# Altium integrated library Memory.IntLib: 18 symbols
Pins are listed as number, name and electrical type; pins without a type are passive.

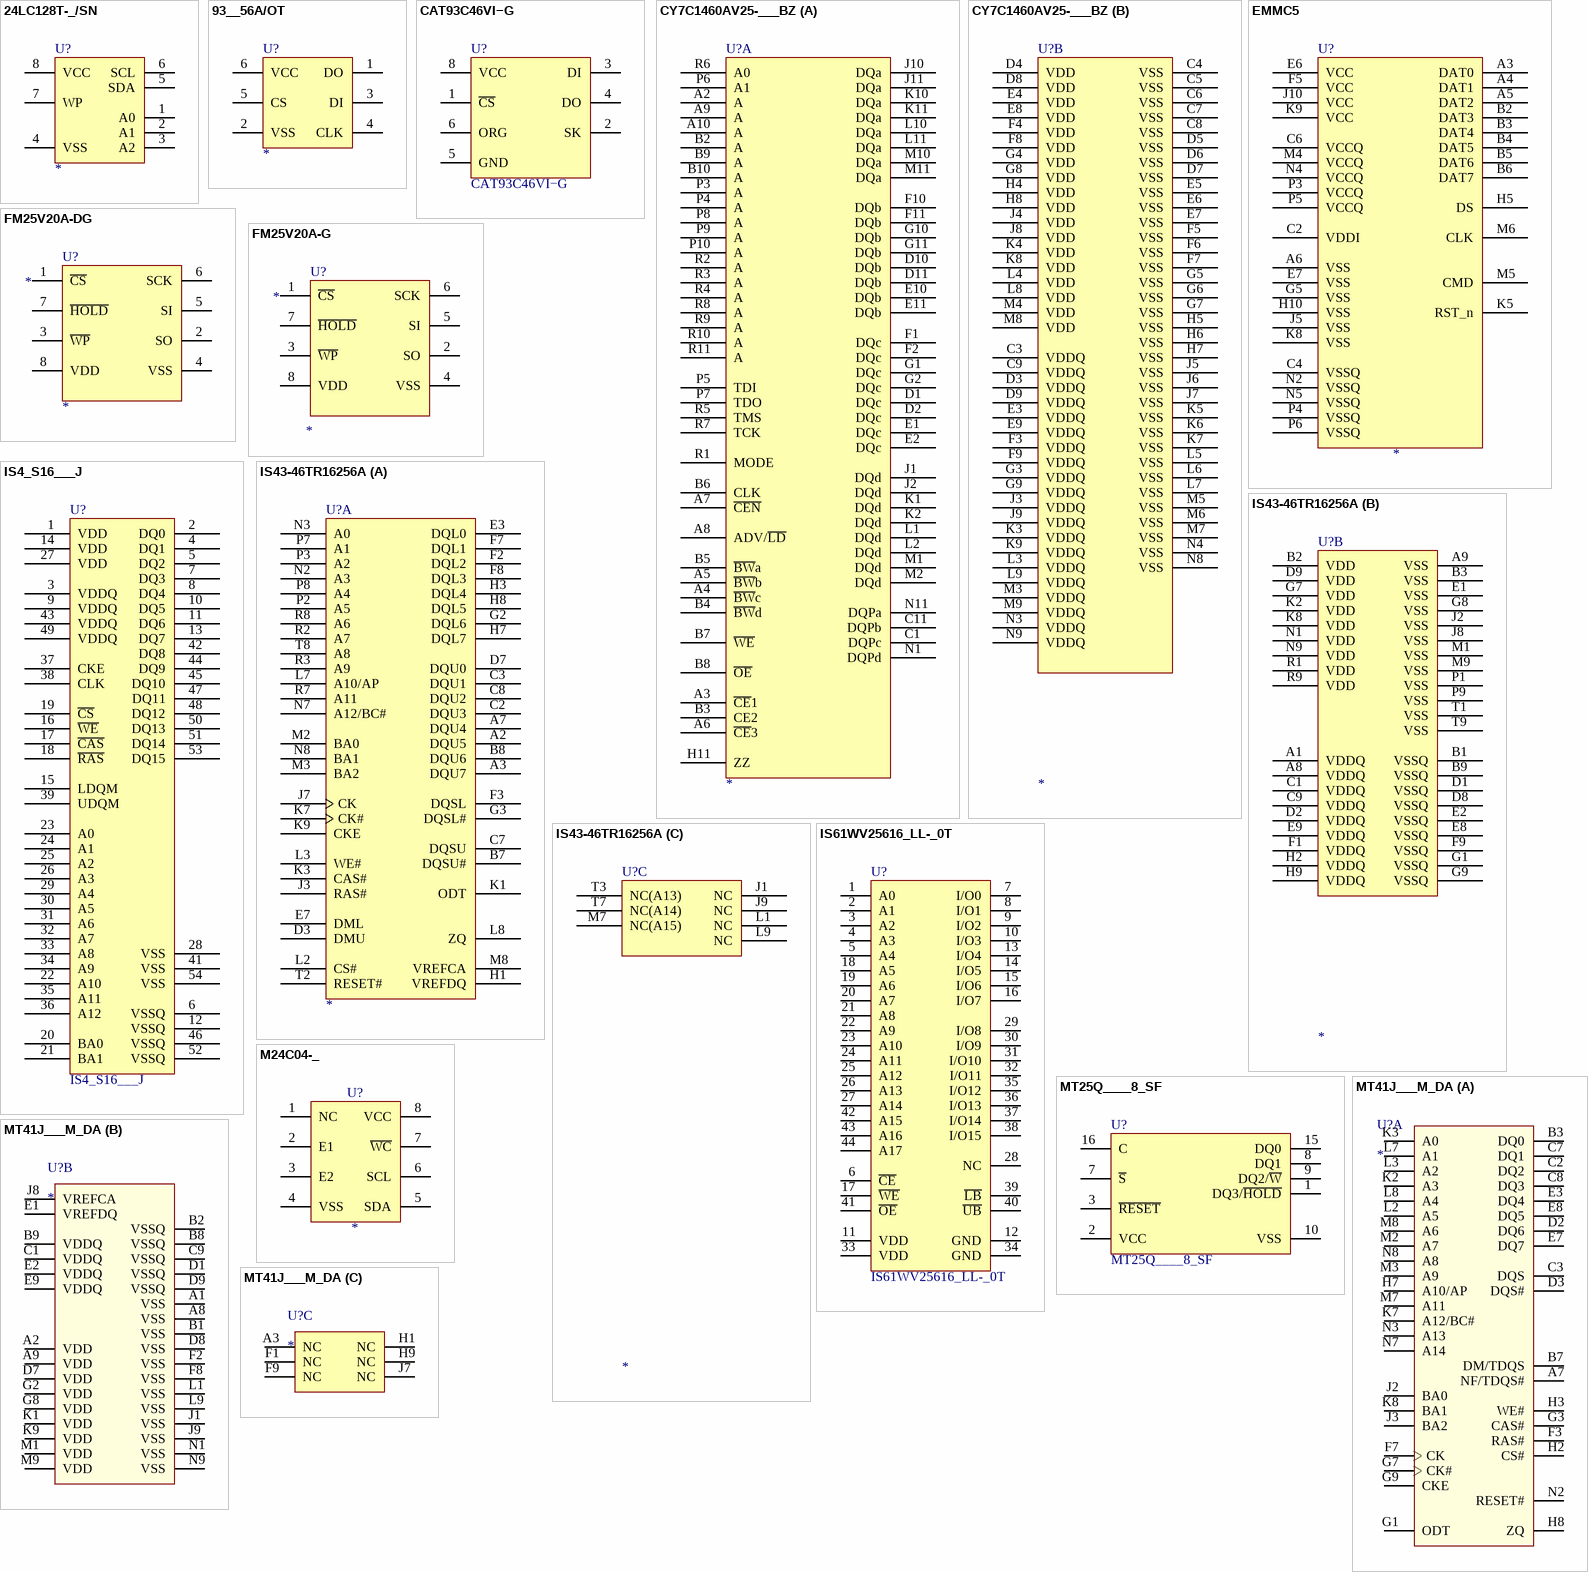
[diagram p0: symbols 24LC128T-_/SN to MT41J___M_DA]

## 24LC128T-_/SN
designator U?
128K I2C™ CMOS Serial EEPROM; Value: *
footprint SO8 P1.27 C4.0X5.0 H1.75 (8-Pin Small Outline Integrated Circuit 1.27 mm Pitch, IPC Medium Density)
pins: 1 A0, 2 A1, 3 A2, 4 VSS (power), 5 SDA, 6 SCL, 7 WP, 8 VCC (power)

## 93__56A/OT
designator U?
2K bit low voltage serial EEPROMs, Without ORG Pin; Value: *
footprint SOT23-6 P0.95 C1.5x3.0 H1.3 (SOT23, 6-Leads, Body 1.6x3.0mm, Pitch 0.95mm, IPC Medium Density)
pins: 1 DO, 2 VSS (power), 3 DI, 4 CLK, 5 CS, 6 VCC (power)

## CAT93C46VI−G
designator U?
1 Kb Microwire Serial  EEPROM; Value: CAT93C46VI−G
footprint SO8 P1.27 C4.0X5.0 H1.75 (8-Pin Small Outline Integrated Circuit 1.27 mm Pitch, IPC Medium Density)
pins: 1 ~{CS}, 2 SK, 3 DI, 4 DO (power), 5 GND, 6 ORG, 8 VCC (power)

## CY7C1460AV25-___BZ
designator U?
Cypress 36Mbit  Pipelined SRAM with NoBL  Architecture; Value: *
footprint BGA165 P1.0 C15x17 H1.4 (BGA, 165-Leads, Body 15.00x17.00mmx1.40mm, Pitch 1.00mm)
part A pins: A2 A, A3 ~{CE}1, A4 ~{BW}c, A5 ~{BW}b, A6 ~{CE}3, A7 ~{CEN}, A8 ADV/~{LD}, A9 A, A10 A, B2 A, B3 CE2, B4 ~{BW}d, B5 ~{BW}a, B6 CLK, B7 ~{WE}, B8 ~{OE}, B9 A, B10 A, C1 DQPc, C11 DQPb, D1 DQc, D2 DQc, D10 DQb, D11 DQb, E1 DQc, E2 DQc, E10 DQb, E11 DQb, F1 DQc, F2 DQc, F10 DQb, F11 DQb, G1 DQc, G2 DQc, G10 DQb, G11 DQb, H11 ZZ, J1 DQd, J2 DQd, J10 DQa, J11 DQa, K1 DQd, K2 DQd, K10 DQa, K11 DQa, L1 DQd, L2 DQd, L10 DQa, L11 DQa, M1 DQd, M2 DQd, M10 DQa, M11 DQa, N1 DQPd, N11 DQPa, P3 A, P4 A, P5 TDI, P6 A1, P7 TDO, P8 A, P9 A, P10 A, R1 MODE, R2 A, R3 A, R4 A, R5 TMS, R6 A0, R7 TCK, R8 A, R9 A, R10 A, R11 A
part B pins: C3 VDDQ, C4 VSS, C5 VSS, C6 VSS, C7 VSS, C8 VSS, C9 VDDQ, D3 VDDQ, D4 VDD, D5 VSS, D6 VSS, D7 VSS, D8 VDD, D9 VDDQ, E3 VDDQ, E4 VDD, E5 VSS, E6 VSS, E7 VSS, E8 VDD, E9 VDDQ, F3 VDDQ, F4 VDD, F5 VSS, F6 VSS, F7 VSS, F8 VDD, F9 VDDQ, G3 VDDQ, G4 VDD, G5 VSS, G6 VSS, G7 VSS, G8 VDD, G9 VDDQ, H4 VDD, H5 VSS, H6 VSS, H7 VSS, H8 VDD, J3 VDDQ, J4 VDD, J5 VSS, J6 VSS, J7 VSS, J8 VDD, J9 VDDQ, K3 VDDQ, K4 VDD, K5 VSS, K6 VSS, K7 VSS, K8 VDD, K9 VDDQ, L3 VDDQ, L4 VDD, L5 VSS, L6 VSS, L7 VSS, L8 VDD, L9 VDDQ, M3 VDDQ, M4 VDD, M5 VSS, M6 VSS, M7 VSS, M8 VDD, M9 VDDQ, N3 VDDQ, N4 VSS, N8 VSS, N9 VDDQ

## EMMC5
designator U?
Generic EMMC5; Value: *
footprint BGA153 P0.5 C11.5X13 H1.4 (BGA, 153-Leads, Body 11.50x13.00mmx1.40mm, Pitch 0.50mm)
pins: A3 DAT0, A4 DAT1, A5 DAT2, A6 VSS, B2 DAT3, B3 DAT4, B4 DAT5, B5 DAT6, B6 DAT7, C2 VDDI, C4 VSSQ, C6 VCCQ, E6 VCC, E7 VSS, F5 VCC, G5 VSS, H5 DS, H10 VSS, J5 VSS, J10 VCC, K5 RST_n, K8 VSS, K9 VCC, M4 VCCQ, M5 CMD, M6 CLK, N2 VSSQ, N4 VCCQ, N5 VSSQ, P3 VCCQ, P4 VSSQ, P5 VCCQ, P6 VSSQ

## FM25V20A-DG
designator U?
2-Mbit (256 K × 8) Serial (SPI) F-RAM; Value: *
footprint DFN8 P0.5 T2.5X4.2 C5.0X6.0 H0.8 (DFN 8-Leads, Body 5.00x6.00mm, Pitch 1.27mm, IPC Medium Density)
pins: 1 ~{CS}, 2 SO, 3 ~{WP}, 4 VSS (power), 5 SI, 6 SCK, 7 ~{HOLD}, 8 VDD (power)

## FM25V20A-G
designator U?
2-Mbit (256 K × 8) Serial (SPI) F-RAM; Value: *
footprint SO8W P1.27 C5.0X5.0 H2.0 (8-Pin Small Outline Integrated Circuit 1.27 mm Pitch, IPC Medium Density)
pins: 1 ~{CS}, 2 SO, 3 ~{WP}, 4 VSS (power), 5 SI, 6 SCK, 7 ~{HOLD}, 8 VDD (power)

## IS4_S16___J
designator U?
1 Meg Bits x 16 Bits x 4 Banks (64-MBIT)  SYNCHRONOUS DYNAMIC RAM; Value: IS4_S16___J
footprint TSOP54 P0.8 C10.3x22.4 H1.2 (TSOP, 54-Leads, Body 22.22x10.16mm, Pitch 0.80mm, IPC Medium Density)
pins: 1 VDD, 2 DQ0, 3 VDDQ, 4 DQ1, 5 DQ2, 6 VSSQ, 7 DQ3, 8 DQ4, 9 VDDQ, 10 DQ5, 11 DQ6, 12 VSSQ, 13 DQ7, 14 VDD, 15 LDQM, 16 ~{WE}, 17 ~{CAS}, 18 ~{RAS}, 19 ~{CS}, 20 BA0, 21 BA1, 22 A10, 23 A0, 24 A1, 25 A2, 26 A3, 27 VDD, 28 VSS, 29 A4, 30 A5, 31 A6, 32 A7, 33 A8, 34 A9, 35 A11, 36 A12, 37 CKE, 38 CLK, 39 UDQM, 41 VSS, 42 DQ8, 43 VDDQ, 44 DQ9, 45 DQ10, 46 VSSQ, 47 DQ11, 48 DQ12, 49 VDDQ, 50 DQ13, 51 DQ14, 52 VSSQ, 53 DQ15, 54 VSS

## IS43-46TR16256A
designator U?
Value: *
footprint BGA96 P0.8 C9.0X13 H1.2 (BGA, 96-Leads, Body 9.0x13.0mm height 1.2mm, Pitch 0.8mm)
part A pins: A2 DQU5 "Data Input/ Output: Bi-directional data bus.", A3 DQU7 "Data Input/ Output: Bi-directional data bus.", A7 DQU4 "Data Input/ Output: Bi-directional data bus.", B7 DQSU# "Data Strobe: output with read data, input with write data. Edge-aligned with read data, centered in write data. For the x16, DQSL corresponds to the data on DQL0-DQL7; DQSU corresponds to the data on DQU0-DQU7. The data strobes DQS, DQSL, and DQSU are paired with differential signals DQS#, DQSL#, and DQSU#, respectively, to provide differential pair signaling to the system during reads and writes. DDR3 SDRAM supports differential data strobe only and does not support single-ended.", B8 DQU6 "Data Input/ Output: Bi-directional data bus.", C2 DQU3 "Data Input/ Output: Bi-directional data bus.", C3 DQU1 "Data Input/ Output: Bi-directional data bus.", C7 DQSU "Data Strobe: output with read data, input with write data. Edge-aligned with read data, centered in write data. For the x16, DQSL corresponds to the data on DQL0-DQL7; DQSU corresponds to the data on DQU0-DQU7. The data strobes DQS, DQSL, and DQSU are paired with differential signals DQS#, DQSL#, and DQSU#, respectively, to provide differential pair signaling to the system during reads and writes. DDR3 SDRAM supports differential data strobe only and does not support single-ended.", C8 DQU2 "Data Input/ Output: Bi-directional data bus.", D3 DMU "Input Data Mask: DM is an input mask signal for write data. Input data is masked when DM is sampled HIGH coincident with that input data during a Write access. DM is sampled on both edges of DQS. For x8 device, the function of DM or TDQS/TDQS# is enabled by Mode Register A11 setting in MR1.", D7 DQU0 "Data Input/ Output: Bi-directional data bus.", E3 DQL0 "Data Input/ Output: Bi-directional data bus.", E7 DML "Input Data Mask: DM is an input mask signal for write data. Input data is masked when DM is sampled HIGH coincident with that input data during a Write access. DM is sampled on both edges of DQS. For x8 device, the function of DM or TDQS/TDQS# is enabled by Mode Register A11 setting in MR1.", F2 DQL2 "Data Input/ Output: Bi-directional data bus.", F3 DQSL "Data Strobe: output with read data, input with write data. Edge-aligned with read data, centered in write data. For the x16, DQSL corresponds to the data on DQL0-DQL7; DQSU corresponds to the data on DQU0-DQU7. The data strobes DQS, DQSL, and DQSU are paired with differential signals DQS#, DQSL#, and DQSU#, respectively, to provide differential pair signaling to the system during reads and writes. DDR3 SDRAM supports differential data strobe only and does not support single-ended.", F7 DQL1 "Data Input/ Output: Bi-directional data bus.", F8 DQL3 "Data Input/ Output: Bi-directional data bus.", G2 DQL6 "Data Input/ Output: Bi-directional data bus.", G3 DQSL# "Data Strobe: output with read data, input with write data. Edge-aligned with read data, centered in write data. For the x16, DQSL corresponds to the data on DQL0-DQL7; DQSU corresponds to the data on DQU0-DQU7. The data strobes DQS, DQSL, and DQSU are paired with differential signals DQS#, DQSL#, and DQSU#, respectively, to provide differential pair signaling to the system during reads and writes. DDR3 SDRAM supports differential data strobe only and does not support single-ended.", H1 VREFDQ "Reference voltage for DQ", H3 DQL4 "Data Input/ Output: Bi-directional data bus.", H7 DQL7 "Data Input/ Output: Bi-directional data bus.", H8 DQL5 "Data Input/ Output: Bi-directional data bus.", J3 RAS# "Command Inputs: RAS#, CAS# and WE# (along with CS#) define the command being entered.", J7 CK "Clock: CK and CK# are differential clock inputs. All address and control input signals are sampled on the crossing of the positive edge of CK and negative edge of CK#.", K1 ODT "On Die Termination: ODT (registered HIGH) enables termination resistance internal to the DDR3 SDRAM. When enabled, ODT is only applied to each DQ, DQSU, DQSU#, DQSL, DQSL#, DMU, and DML signal. The ODT pin will be ignored if MR1 and MR2 are programmed to disable RTT.", K3 CAS# "Command Inputs: RAS#, CAS# and WE# (along with CS#) define the command being entered.", K7 CK# "Clock: CK and CK# are differential clock inputs. All address and control input signals are sampled on the crossing of the positive edge of CK and negative edge of CK#.", K9 CKE "Clock Enable: CKE HIGH activates, and CKE Low deactivates, internal clock signals and device input buffers and output drivers. Taking CKE Low provides Precharge Power-Down and Self-Refresh operation (all banks idle), or Active Power-Down (row Active in any bank). CKE is asynchronous for Self-Refresh exit. After VREFCA and VREFDQ have become stable during the power on and initialization sequence, they must be maintained during all operations (including Self-Refresh). CKE must be maintained high throughout read and write accesses. Input buffers, excluding CK, CK#, ODT and CKE, are disabled during power-down. Input buffers, excluding CKE, are disabled during Self-Refresh.", L2 CS# "Chip Select: All commands are masked when CS# is registered HIGH. CS# provides for external Rank selection on systems with multiple Ranks. CS# is considered part of the command code.", L3 WE# "Command Inputs: RAS#, CAS# and WE# (along with CS#) define the command being entered.", L7 A10/AP "Auto-precharge: A10 is sampled during Read/Write commands to determine whether Autoprecharge should be performed to the accessed bank after the Read/Write operation. (HIGH: Autoprecharge; LOW: no Autoprecharge). A10 is sampled during a Precharge command to determine whether the Precharge applies to one bank (A10 LOW) or all banks (A10 HIGH). If only one bank is to be precharged, the bank is selected by bank addresses.", L8 ZQ "Reference Pin for ZQ", M2 BA0 "Bank Address Inputs: BA0 - BA2 define to which bank an Active, Read, Write, or Precharge command is being applied. Bank address also determines which mode register is to be accessed during a MRS cycle.", M3 BA2 "Bank Address Inputs: BA0 - BA2 define to which bank an Active, Read, Write, or Precharge command is being applied. Bank address also determines which mode register is to be accessed during a MRS cycle.", M8 VREFCA "Reference voltage for CA", N2 A3 "Address Inputs: Provide the row address for Active commands and the column address for Read/ Write commands to select one location out of the memory array in the respective bank. (A10/AP and A12/BC# have additional functions; see below). The address inputs also provide the op-code during Mode Register Set commands.", N3 A0 "Address Inputs: Provide the row address for Active commands and the column address for Read/ Write commands to select one location out of the memory array in the respective bank. (A10/AP and A12/BC# have additional functions; see below). The address inputs also provide the op-code during Mode Register Set commands.", N7 A12/BC# "Burst Chop: A12 / BC# is sampled during Read and Write commands to determine if burst chop (on-the-fly) will be performed. (HIGH, no burst chop; LOW: burst chopped). See command truth table for details.", N8 BA1 "Bank Address Inputs: BA0 - BA2 define to which bank an Active, Read, Write, or Precharge command is being applied. Bank address also determines which mode register is to be accessed during a MRS cycle.", P2 A5 "Address Inputs: Provide the row address for Active commands and the column address for Read/ Write commands to select one location out of the memory array in the respective bank. (A10/AP and A12/BC# have additional functions; see below). The address inputs also provide the op-code during Mode Register Set commands.", P3 A2 "Address Inputs: Provide the row address for Active commands and the column address for Read/ Write commands to select one location out of the memory array in the respective bank. (A10/AP and A12/BC# have additional functions; see below). The address inputs also provide the op-code during Mode Register Set commands.", P7 A1 "Address Inputs: Provide the row address for Active commands and the column address for Read/ Write commands to select one location out of the memory array in the respective bank. (A10/AP and A12/BC# have additional functions; see below). The address inputs also provide the op-code during Mode Register Set commands.", P8 A4 "Address Inputs: Provide the row address for Active commands and the column address for Read/ Write commands to select one location out of the memory array in the respective bank. (A10/AP and A12/BC# have additional functions; see below). The address inputs also provide the op-code during Mode Register Set commands.", R2 A7 "Address Inputs: Provide the row address for Active commands and the column address for Read/ Write commands to select one location out of the memory array in the respective bank. (A10/AP and A12/BC# have additional functions; see below). The address inputs also provide the op-code during Mode Register Set commands.", R3 A9 "Address Inputs: Provide the row address for Active commands and the column address for Read/ Write commands to select one location out of the memory array in the respective bank. (A10/AP and A12/BC# have additional functions; see below). The address inputs also provide the op-code during Mode Register Set commands.", R7 A11 "Address Inputs: Provide the row address for Active commands and the column address for Read/ Write commands to select one location out of the memory array in the respective bank. (A10/AP and A12/BC# have additional functions; see below). The address inputs also provide the op-code during Mode Register Set commands.", R8 A6 "Address Inputs: Provide the row address for Active commands and the column address for Read/ Write commands to select one location out of the memory array in the respective bank. (A10/AP and A12/BC# have additional functions; see below). The address inputs also provide the op-code during Mode Register Set commands.", T2 RESET# "Active Low Asynchronous Reset: Reset is active when RESET# is LOW, and inactive when RESET# is HIGH. RESET# must be HIGH during normal operation. RESET# is a CMOS rail- to-rail signal with DC high and low at 80% and 20% of VDD, i.e., 1.20V for DC high and 0.30V for DC low.", T8 A8 "Address Inputs: Provide the row address for Active commands and the column address for Read/ Write commands to select one location out of the memory array in the respective bank. (A10/AP and A12/BC# have additional functions; see below). The address inputs also provide the op-code during Mode Register Set commands."
part B pins: A1 VDDQ "DQ Power Supply: 1.5 V +/- 0.075 V for standard voltage or 1.35V +0.1V, -0.067V for low voltage", A8 VDDQ "DQ Power Supply: 1.5 V +/- 0.075 V for standard voltage or 1.35V +0.1V, -0.067V for low voltage", A9 VSS "Ground", B1 VSSQ "DQ Ground", B2 VDD "Power Supply: 1.5 V +/- 0.075 V for standard voltage or 1.35V +0.1V, -0.067V for low voltage", B3 VSS "Ground", B9 VSSQ "DQ Ground", C1 VDDQ "DQ Power Supply: 1.5 V +/- 0.075 V for standard voltage or 1.35V +0.1V, -0.067V for low voltage", C9 VDDQ "DQ Power Supply: 1.5 V +/- 0.075 V for standard voltage or 1.35V +0.1V, -0.067V for low voltage", D1 VSSQ "DQ Ground", D2 VDDQ "DQ Power Supply: 1.5 V +/- 0.075 V for standard voltage or 1.35V +0.1V, -0.067V for low voltage", D8 VSSQ "DQ Ground", D9 VDD "Power Supply: 1.5 V +/- 0.075 V for standard voltage or 1.35V +0.1V, -0.067V for low voltage", E1 VSS "Ground", E2 VSSQ "DQ Ground", E8 VSSQ "DQ Ground", E9 VDDQ "DQ Power Supply: 1.5 V +/- 0.075 V for standard voltage or 1.35V +0.1V, -0.067V for low voltage", F1 VDDQ "DQ Power Supply: 1.5 V +/- 0.075 V for standard voltage or 1.35V +0.1V, -0.067V for low voltage", F9 VSSQ "DQ Ground", G1 VSSQ "DQ Ground", G7 VDD "Power Supply: 1.5 V +/- 0.075 V for standard voltage or 1.35V +0.1V, -0.067V for low voltage", G8 VSS "Ground", G9 VSSQ "DQ Ground", H2 VDDQ "DQ Power Supply: 1.5 V +/- 0.075 V for standard voltage or 1.35V +0.1V, -0.067V for low voltage", H9 VDDQ "DQ Power Supply: 1.5 V +/- 0.075 V for standard voltage or 1.35V +0.1V, -0.067V for low voltage", J2 VSS "Ground", J8 VSS "Ground", K2 VDD "Power Supply: 1.5 V +/- 0.075 V for standard voltage or 1.35V +0.1V, -0.067V for low voltage", K8 VDD "Power Supply: 1.5 V +/- 0.075 V for standard voltage or 1.35V +0.1V, -0.067V for low voltage", M1 VSS "Ground", M9 VSS "Ground", N1 VDD "Power Supply: 1.5 V +/- 0.075 V for standard voltage or 1.35V +0.1V, -0.067V for low voltage", N9 VDD "Power Supply: 1.5 V +/- 0.075 V for standard voltage or 1.35V +0.1V, -0.067V for low voltage", P1 VSS "Ground", P9 VSS "Ground", R1 VDD "Power Supply: 1.5 V +/- 0.075 V for standard voltage or 1.35V +0.1V, -0.067V for low voltage", R9 VDD "Power Supply: 1.5 V +/- 0.075 V for standard voltage or 1.35V +0.1V, -0.067V for low voltage", T1 VSS "Ground", T9 VSS "Ground"
part C pins: J1 NC "No Connect: No internal electrical connection is present.", J9 NC "No Connect: No internal electrical connection is present.", L1 NC "No Connect: No internal electrical connection is present.", L9 NC "No Connect: No internal electrical connection is present.", M7 NC(A15) "No Connect: No internal electrical connection is present.", T3 NC(A13) "No Connect: No internal electrical connection is present.", T7 NC(A14) "No Connect: No internal electrical connection is present."

## IS61WV25616_LL-_0T
designator U?
256K x 16 HIGH SPEED ASYNCHRONOUS CMOS STATIC RAM; Value: IS61WV25616_LL-_0T
footprint TSOP44 P0.8 C10.3x18.5 H1.2 (Footprint not found)
pins: 1 A0 "Address Input", 2 A1 "Address Input", 3 A2 "Address Input", 4 A3 "Address Input", 5 A4 "Address Input", 6 ~{CE} "Chip Enable Input", 7 I/O0 "Data Input/Output", 8 I/O1 "Data Input/Output", 9 I/O2 "Data Input/Output", 10 I/O3 "Data Input/Output", 11 VDD "Power", 12 GND "Ground", 13 I/O4 "Data Input/Output", 14 I/O5 "Data Input/Output", 15 I/O6 "Data Input/Output", 16 I/O7 "Data Input/Output", 17 ~{WE} "Write Enable Input", 18 A5 "Address Input", 19 A6 "Address Input", 20 A7 "Address Input", 21 A8 "Address Input", 22 A9 "Address Input", 23 A10 "Address Input", 24 A11 "Address Input", 25 A12 "Address Input", 26 A13 "Address Input", 27 A14 "Address Input", 28 NC "No Connection", 29 I/O8 "Data Input/Output", 30 I/O9 "Data Input/Output", 31 I/O10 "Data Input/Output", 32 I/O11 "Data Input/Output", 33 VDD "Power", 34 GND "Ground", 35 I/O12 "Data Input/Output", 36 I/O13 "Data Input/Output", 37 I/O14 "Data Input/Output", 38 I/O15 "Data Input/Output", 39 ~{LB} "Lower-byte Control (I/O0-I/O7)", 40 ~{UB} "Upper-byte Control (I/O8-I/O15)", 41 ~{OE} "Output Enable Input", 42 A15 "Address Input", 43 A16 "Address Input", 44 A17 "Address Input"

## M24C04-_
designator U?
4-Kbit serial I²C bus EEPROM; Value: *
footprint SO8 P1.27 C4.0X5.0 H1.75 (8-Pin Small Outline Integrated Circuit 1.27 mm Pitch, IPC Medium Density)
footprint DIP8 P2.54 W7.62 H5.0 (8-Pin Dual in Line Integrated Circuit 2.54 Pitch, 7.62 Width, Case 10x6mm)
pins: 1 NC, 2 E1, 3 E2, 4 VSS (power), 5 SDA, 6 SCL, 7 ~{WC}, 8 VCC (power)

## MT25Q____8_SF
designator U?
Value: MT25Q____8_SF
footprint SO16W P1.27 C7.5x10.2 H2.65 (SOIC WIDE, 16-Leads, Body 10.20x7.50mm, Pitch 1.27mm, IPC Medium Density)
pins: 1 DQ3/~{HOLD}, 2 VCC "Core and I/O power supply.", 3 ~{RESET}, 7 ~{S}, 8 DQ1 "Serial I/O: The bidirectional DQ signals transfer address, data, and command information. When using legacy (x1) SPI commands in extended I/O protocol (XIO-SPI), DQ0 is an input and DQ1 is an output. DQ[3:2] are not used. (See Datasheet)", 9 DQ2/~{W}, 10 VSS "Core and I/O ground connection.", 15 DQ0 "Serial I/O: The bidirectional DQ signals transfer address, data, and command information. When using legacy (x1) SPI commands in extended I/O protocol (XIO-SPI), DQ0 is an input and DQ1 is an output. DQ[3:2] are not used. (See Datasheet)", 16 C "Clock: Provides the timing of the serial interface. Command inputs are latched on the rising edge of the clock. In STR commands or protocol, address and data inputs are latched on the rising edge of the clock, while data is (See Datasheet)"

## MT41J___M_DA
designator U?
Value: *
footprint BGA78 P0.8 C8.0X10.5 H1.0 (BGA, 78-Balls, Body 8x10.5mm, Pitch 0.8mm)
part A pins: A7 NF/TDQS# "No function: When configured as a x4 device, these balls are NF. When configured as a x8 device, these balls are defined as TDQS#, DQ[7:4].Termination data strobe: Applies to the x8 configuration only. When TDQS is enabled, (See Datasheet)", B3 DQ0 "Data input/output: Lower byte of bidirectional data bus for the x16 configuration.DQ[7:0] are referenced to VREFDQ.", B7 DM/TDQS "Input data mask: DM is an input mask signal for write data. Input data is masked when DM is sampled HIGH along with the input data during a write access.Although the DM ball is input-only, the DM loading is designed to match (See Datasheet)", C2 DQ2 "Data input/output: Lower byte of bidirectional data bus for the x16 configuration.DQ[7:0] are referenced to VREFDQ.", C3 DQS "Data strobe: Output with read data. Edge-aligned with read data. Input with write data. Center-aligned to write data.", C7 DQ1 "Data input/output: Lower byte of bidirectional data bus for the x16 configuration.DQ[7:0] are referenced to VREFDQ.", C8 DQ3 "Data input/output: Lower byte of bidirectional data bus for the x16 configuration.DQ[7:0] are referenced to VREFDQ.", D2 DQ6 "Data input/output: Lower byte of bidirectional data bus for the x16 configuration.DQ[7:0] are referenced to VREFDQ.", D3 DQS# "Data strobe: Output with read data. Edge-aligned with read data. Input with write data. Center-aligned to write data.", E3 DQ4 "Data input/output: Lower byte of bidirectional data bus for the x16 configuration.DQ[7:0] are referenced to VREFDQ.", E7 DQ7 "Data input/output: Lower byte of bidirectional data bus for the x16 configuration.DQ[7:0] are referenced to VREFDQ.", E8 DQ5 "Data input/output: Lower byte of bidirectional data bus for the x16 configuration.DQ[7:0] are referenced to VREFDQ.", F3 RAS# "Command inputs: RAS#, CAS#, and WE# (along with CS#) define the command being entered and are referenced to VREFCA.", F7 CK "Clock: CK and CK# are differential clock inputs. All control and address input signals are sampled on the crossing of the positive edge of CK and the negative edge of CK#. Output data strobe (DQS, DQS#) is referenced to the (See Datasheet)", G1 ODT "On-die termination: ODT enables (registered HIGH) and disables (registered LOW) termination resistance internal to the DDR3 SDRAM. When enabled in normal operation, ODT is only applied to each of the following balls: (See Datasheet)", G3 CAS# "Command inputs: RAS#, CAS#, and WE# (along with CS#) define the command being entered and are referenced to VREFCA.", G7 CK# "Clock: CK and CK# are differential clock inputs. All control and address input signals are sampled on the crossing of the positive edge of CK and the negative edge of CK#. Output data strobe (DQS, DQS#) is referenced to the (See Datasheet)", G9 CKE "Clock enable: CKE enables (registered HIGH) and disables (registered LOW) internal circuitry and clocks on the DRAM. The specific circuitry that is enabled/disabled is dependent upon the DDR3 SDRAM configuration and (See Datasheet)", H2 CS# "Chip select: CS# enables (registered LOW) and disables (registered HIGH) the command decoder. All commands are masked when CS# is registered HIGH. CS# provides for external rank selection on systems with multiple ranks. CS# (See Datasheet)", H3 WE# "Command inputs: RAS#, CAS#, and WE# (along with CS#) define the command being entered and are referenced to VREFCA.", H7 A10/AP "Address inputs: Provide the row address for ACTIVATE commands, and the column address and auto precharge bit (A10) for READ/WRITE commands, to select one location out of the memory array in the respective bank. A10 sampled (See Datasheet)", H8 ZQ "External reference ball for output drive calibration: This ball is tied to external 240 ohm resistor RZQ, which is tied to VSSQ.", J2 BA0 "Bank address inputs: BA[2:0] define the bank to which an ACTIVATE, READ, WRITE, or PRECHARGE command is being applied. BA[2:0] define which mode register (MR0, MR1, MR2, or MR3) is loaded during the LOAD MODE command. (See Datasheet)", J3 BA2 "Bank address inputs: BA[2:0] define the bank to which an ACTIVATE, READ, WRITE, or PRECHARGE command is being applied. BA[2:0] define which mode register (MR0, MR1, MR2, or MR3) is loaded during the LOAD MODE command. (See Datasheet)", K2 A3 "Address inputs: Provide the row address for ACTIVATE commands, and the column address and auto precharge bit (A10) for READ/WRITE commands, to select one location out of the memory array in the respective bank. A10 sampled (See Datasheet)", K3 A0 "Address inputs: Provide the row address for ACTIVATE commands, and the column address and auto precharge bit (A10) for READ/WRITE commands, to select one location out of the memory array in the respective bank. A10 sampled (See Datasheet)", K7 A12/BC# "Address inputs: Provide the row address for ACTIVATE commands, and the column address and auto precharge bit (A10) for READ/WRITE commands, to select one location out of the memory array in the respective bank. A10 sampled (See Datasheet)", K8 BA1 "Bank address inputs: BA[2:0] define the bank to which an ACTIVATE, READ, WRITE, or PRECHARGE command is being applied. BA[2:0] define which mode register (MR0, MR1, MR2, or MR3) is loaded during the LOAD MODE command. (See Datasheet)", L2 A5 "Address inputs: Provide the row address for ACTIVATE commands, and the column address and auto precharge bit (A10) for READ/WRITE commands, to select one location out of the memory array in the respective bank. A10 sampled (See Datasheet)", L3 A2 "Address inputs: Provide the row address for ACTIVATE commands, and the column address and auto precharge bit (A10) for READ/WRITE commands, to select one location out of the memory array in the respective bank. A10 sampled (See Datasheet)", L7 A1 "Address inputs: Provide the row address for ACTIVATE commands, and the column address and auto precharge bit (A10) for READ/WRITE commands, to select one location out of the memory array in the respective bank. A10 sampled (See Datasheet)", L8 A4 "Address inputs: Provide the row address for ACTIVATE commands, and the column address and auto precharge bit (A10) for READ/WRITE commands, to select one location out of the memory array in the respective bank. A10 sampled (See Datasheet)", M2 A7 "Address inputs: Provide the row address for ACTIVATE commands, and the column address and auto precharge bit (A10) for READ/WRITE commands, to select one location out of the memory array in the respective bank. A10 sampled (See Datasheet)", M3 A9 "Address inputs: Provide the row address for ACTIVATE commands, and the column address and auto precharge bit (A10) for READ/WRITE commands, to select one location out of the memory array in the respective bank. A10 sampled (See Datasheet)", M7 A11 "Address inputs: Provide the row address for ACTIVATE commands, and the column address and auto precharge bit (A10) for READ/WRITE commands, to select one location out of the memory array in the respective bank. A10 sampled (See Datasheet)", M8 A6 "Address inputs: Provide the row address for ACTIVATE commands, and the column address and auto precharge bit (A10) for READ/WRITE commands, to select one location out of the memory array in the respective bank. A10 sampled (See Datasheet)", N2 RESET# "Reset: RESET# is an active LOW CMOS input referenced to VSS. The RESET# input receiver is a CMOS input defined as a rail-to-rail signal with DC HIGH => 0.8 x VDD and DC LOW <= 0.2 x VDDQ. RESET# assertion and de-assertion (See Datasheet)", N3 A13 "Address inputs: Provide the row address for ACTIVATE commands, and the column address and auto precharge bit (A10) for READ/WRITE commands, to select one location out of the memory array in the respective bank. A10 sampled (See Datasheet)", N7 A14 "Address inputs: Provide the row address for ACTIVATE commands, and the column address and auto precharge bit (A10) for READ/WRITE commands, to select one location out of the memory array in the respective bank. A10 sampled (See Datasheet)", N8 A8 "Address inputs: Provide the row address for ACTIVATE commands, and the column address and auto precharge bit (A10) for READ/WRITE commands, to select one location out of the memory array in the respective bank. A10 sampled (See Datasheet)"
part B pins: A1 VSS "Ground.", A2 VDD "Power supply: 1.5V +/-0.075V.", A8 VSS "Ground.", A9 VDD "Power supply: 1.5V +/-0.075V.", B1 VSS "Ground.", B2 VSSQ "DQ ground: Isolated on the device for improved noise immunity.", B8 VSSQ "DQ ground: Isolated on the device for improved noise immunity.", B9 VDDQ "DQ power supply: 1.5V +/-0.075V. Isolated on the device for improved noise immunity.", C1 VDDQ "DQ power supply: 1.5V +/-0.075V. Isolated on the device for improved noise immunity.", C9 VSSQ "DQ ground: Isolated on the device for improved noise immunity.", D1 VSSQ "DQ ground: Isolated on the device for improved noise immunity.", D7 VDD "Power supply: 1.5V +/-0.075V.", D8 VSS "Ground.", D9 VSSQ "DQ ground: Isolated on the device for improved noise immunity.", E1 VREFDQ "Reference voltage for data: VREFDQ must be maintained at all times (excluding self refresh) for proper device operation.", E2 VDDQ "DQ power supply: 1.5V +/-0.075V. Isolated on the device for improved noise immunity.", E9 VDDQ "DQ power supply: 1.5V +/-0.075V. Isolated on the device for improved noise immunity.", F2 VSS "Ground.", F8 VSS "Ground.", G2 VDD "Power supply: 1.5V +/-0.075V.", G8 VDD "Power supply: 1.5V +/-0.075V.", J1 VSS "Ground.", J8 VREFCA "Reference voltage for control, command, and address: VREFCA must be maintained at all times (including self refresh) for proper device operation.", J9 VSS "Ground.", K1 VDD "Power supply: 1.5V +/-0.075V.", K9 VDD "Power supply: 1.5V +/-0.075V.", L1 VSS "Ground.", L9 VSS "Ground.", M1 VDD "Power supply: 1.5V +/-0.075V.", M9 VDD "Power supply: 1.5V +/-0.075V.", N1 VSS "Ground.", N9 VSS "Ground."
part C pins: A3 NC "No connect: These balls should be left unconnected (the ball has no connection to the DRAM or to other balls).", F1 NC "No connect: These balls should be left unconnected (the ball has no connection to the DRAM or to other balls).", F9 NC "No connect: These balls should be left unconnected (the ball has no connection to the DRAM or to other balls).", H1 NC "No connect: These balls should be left unconnected (the ball has no connection to the DRAM or to other balls).", H9 NC "No connect: These balls should be left unconnected (the ball has no connection to the DRAM or to other balls).", J7 NC "No connect: These balls should be left unconnected (the ball has no connection to the DRAM or to other balls)."

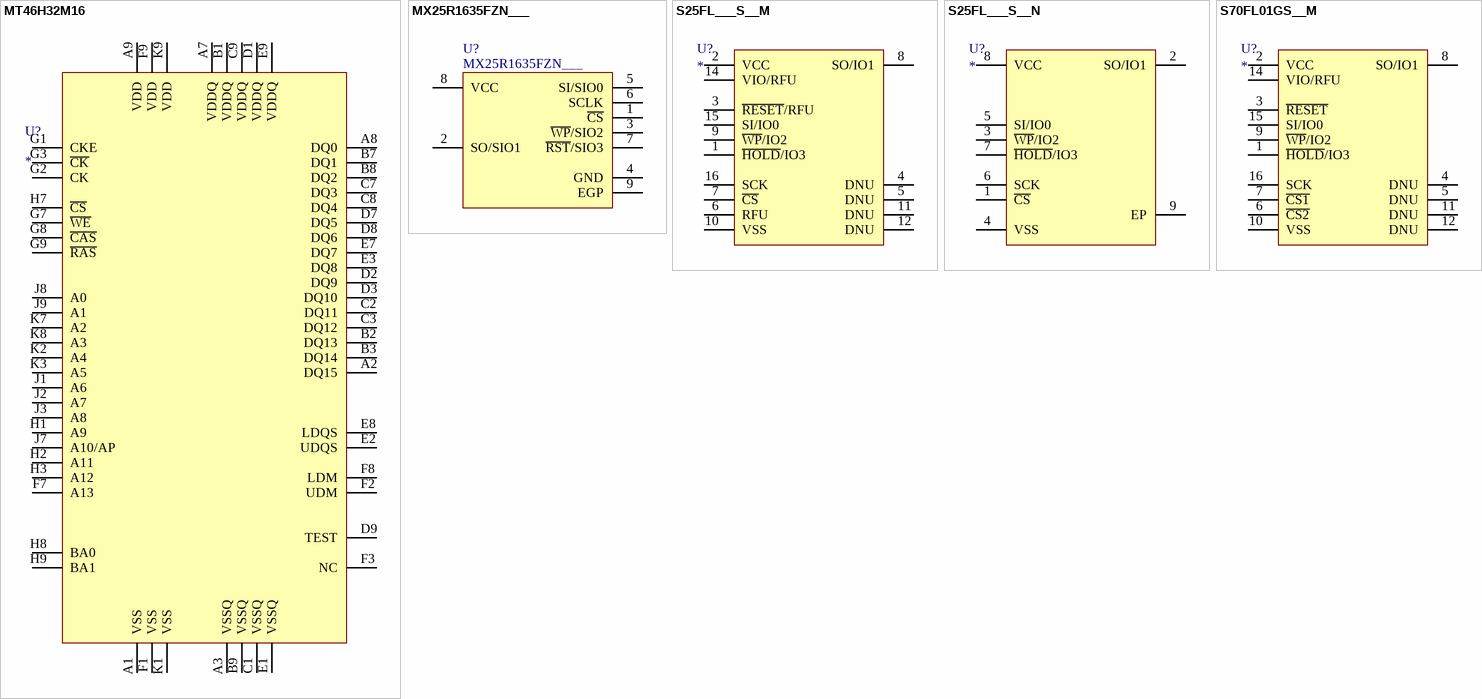
[diagram p1: symbols MT46H32M16 to S70FL01GS__M]

## MT46H32M16
designator U?
Mobile Low-Power DDR SDRAM; Value: *
footprint BGA60 P0.8 C8.0x9.0 H1.2 (BGA, 60-Leads, Body 8.00x9.00mmx1.2mm, Pitch 0.80mm)
pins: A1 VSS, A2 DQ15, A3 VSSQ, A7 VDDQ, A8 DQ0, A9 VDD, B1 VDDQ, B2 DQ13, B3 DQ14, B7 DQ1, B8 DQ2, B9 VSSQ, C1 VSSQ, C2 DQ11, C3 DQ12, C7 DQ3, C8 DQ4, C9 VDDQ, D1 VDDQ, D2 DQ9, D3 DQ10, D7 DQ5, D8 DQ6, D9 TEST, E1 VSSQ, E2 UDQS, E3 DQ8, E7 DQ7, E8 LDQS, E9 VDDQ, F1 VSS, F2 UDM, F3 NC, F7 A13, F8 LDM, F9 VDD, G1 CKE, G2 CK, G3 ~{CK}, G7 ~{WE}, G8 ~{CAS}, G9 ~{RAS}, H1 A9, H2 A11, H3 A12, H7 ~{CS}, H8 BA0, H9 BA1, J1 A6, J2 A7, J3 A8, J7 A10/AP, J8 A0, J9 A1, K1 VSS, K2 A4, K3 A5, K7 A2, K8 A3, K9 VDD

## MX25R1635FZN___
designator U?
Ultra Low Power 16M-bit Flash Memory; Value: MX25R1635FZN___
footprint WSON8 P1.27 T3.4X4.0 C6.0X5.0 H0.8 (SON, 8-Leads, Body 6.00x5.00mm, Pitch 1.27mm, Thermal Pad 3.480x4.00mm, IPC Medium Density)
pins: 1 ~{CS}, 2 SO/SIO1, 3 ~{WP}/SIO2, 4 GND, 5 SI/SIO0 (power), 6 SCLK (power), 7 ~{RST}/SIO3, 8 VCC (power), 9 EGP

## S25FL___S__M
designator U?
Value: *
footprint SO16W P1.27 C7.5x10.2 H2.65 (SOIC WIDE, 16-Leads, Body 10.20x7.50mm, Pitch 1.27mm, IPC Medium Density)
pins: 1 ~{HOLD}/IO3, 2 VCC (power), 3 ~{RESET}/RFU, 4 DNU (power), 5 DNU (power), 6 RFU, 7 ~{CS}, 8 SO/IO1, 9 ~{WP}/IO2, 10 VSS, 11 DNU (power), 12 DNU (power), 14 VIO/RFU (power), 15 SI/IO0 (power), 16 SCK (power)

## S25FL___S__N
designator U?
Value: *
footprint WSON8 P1.27 T4.0X4.65 C8.0X6.0 H0.8 (SON, 8-Leads, Body 6.00x8.00mm, Pitch 1.27mm, Thermal Pad 4.80x4.65mm, IPC Medium Density)
pins: 1 ~{CS}, 2 SO/IO1, 3 ~{WP}/IO2, 4 VSS, 5 SI/IO0 (power), 6 SCK (power), 7 ~{HOLD}/IO3, 8 VCC (power), 9 EP

## S70FL01GS__M
designator U?
Value: *
footprint SO16W P1.27 C7.5x10.2 H2.65 (SOIC WIDE, 16-Leads, Body 10.20x7.50mm, Pitch 1.27mm, IPC Medium Density)
pins: 1 ~{HOLD}/IO3, 2 VCC (power), 3 ~{RESET}, 4 DNU (power), 5 DNU (power), 6 ~{CS2}, 7 ~{CS1}, 8 SO/IO1, 9 ~{WP}/IO2, 10 VSS, 11 DNU (power), 12 DNU (power), 14 VIO/RFU (power), 15 SI/IO0 (power), 16 SCK (power)